# Altium footprint library Connector_PinSocket_2.00mm.PcbLib: 278 footprints (part 16 of 18)
Each footprint in its own frame and in the unit in brackets; x right, y up, seen from the top. Pads: shape width x height; smd on the part's side, far side on the other; paste and mask are expansions set on the pad; w line width, h text height; cw(c..) or ccw(c..) is an arc to the next point about the centre after c.
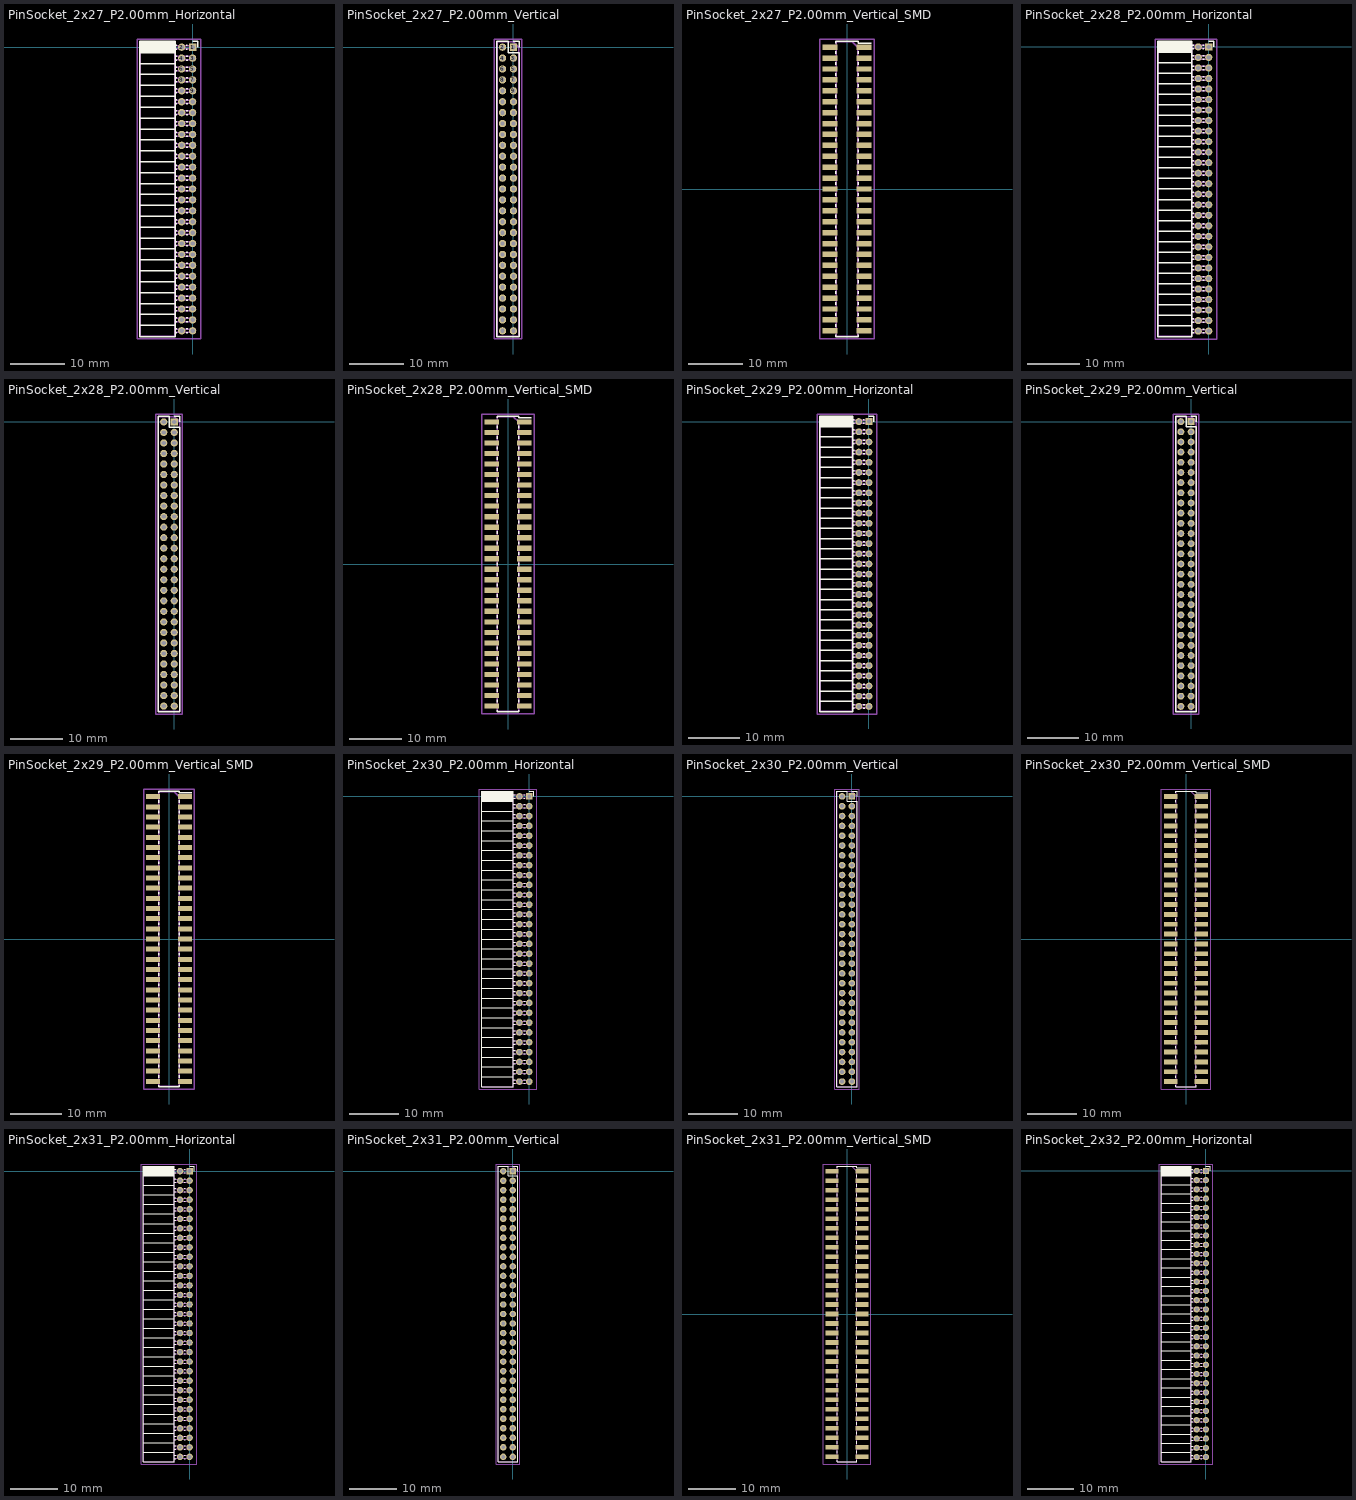
[diagram p15: the footprints below, top view; thin cyan lines are the x and y axes]

## PinSocket_2x27_P2.00mm_Horizontal [mm]
pads (54):
  rect 1.35x1.35 hole 0.8: 1(0,0)
  round 1.35 hole 0.8: 2(-2,0) 3(0,-2) 4(-2,-2) 5(0,-4) 6(-2,-4) 7(0,-6) 8(-2,-6) 9(0,-8) 10(-2,-8) 11(0,-10) 12(-2,-10) 13(0,-12) 14(-2,-12) 15(0,-14) 16(-2,-14) 17(0,-16) 18(-2,-16) 19(0,-18) 20(-2,-18) 21(0,-20) 22(-2,-20) 23(0,-22) 24(-2,-22) 25(0,-24) 26(-2,-24) 27(0,-26) 28(-2,-26) 29(0,-28) 30(-2,-28) 31(0,-30) 32(-2,-30) 33(0,-32) 34(-2,-32) 35(0,-34) 36(-2,-34) 37(0,-36) 38(-2,-36) 39(0,-38) 40(-2,-38) 41(0,-40) 42(-2,-40) 43(0,-42) 44(-2,-42) 45(0,-44) 46(-2,-44) 47(0,-46) 48(-2,-46) 49(0,-48) 50(-2,-48) 51(0,-50) 52(-2,-50) 53(0,-52) 54(-2,-52)
F.SilkS:
  drawing of 157 lines, arcs and shapes, not listed
Top Assembly:
  lines w0.254: -3.27,-52.3 0,-52.3 0,-51.7 -3.27,-51.7 ; -3.27,-50.3 0,-50.3 0,-49.7 -3.27,-49.7 ; -3.27,-48.3 0,-48.3 0,-47.7 -3.27,-47.7 ; -3.27,-46.3 0,-46.3 0,-45.7 -3.27,-45.7 ; -3.27,-44.3 0,-44.3 0,-43.7 -3.27,-43.7 ; -3.27,-42.3 0,-42.3 0,-41.7 -3.27,-41.7 ; -3.27,-40.3 0,-40.3 0,-39.7 -3.27,-39.7 ; -3.27,-38.3 0,-38.3 0,-37.7 -3.27,-37.7 ; -3.27,-36.3 0,-36.3 0,-35.7 -3.27,-35.7 ; -3.27,-34.3 0,-34.3 0,-33.7 -3.27,-33.7 ; -3.27,-32.3 0,-32.3 0,-31.7 -3.27,-31.7 ; -3.27,-30.3 0,-30.3 0,-29.7 -3.27,-29.7 ; -3.27,-28.3 0,-28.3 0,-27.7 -3.27,-27.7 ; -3.27,-26.3 0,-26.3 0,-25.7 -3.27,-25.7 ; -3.27,-24.3 0,-24.3 0,-23.7 -3.27,-23.7 ; -3.27,-22.3 0,-22.3 0,-21.7 -3.27,-21.7 ; -3.27,-20.3 0,-20.3 0,-19.7 -3.27,-19.7 ; -3.27,-18.3 0,-18.3 0,-17.7 -3.27,-17.7 ; -3.27,-16.3 0,-16.3 0,-15.7 -3.27,-15.7 ; -3.27,-14.3 0,-14.3 0,-13.7 -3.27,-13.7 ; -3.27,-12.3 0,-12.3 0,-11.7 -3.27,-11.7 ; -3.27,-10.3 0,-10.3 0,-9.7 -3.27,-9.7 ; -3.27,-8.3 0,-8.3 0,-7.7 -3.27,-7.7 ; -3.27,-6.3 0,-6.3 0,-5.7 -3.27,-5.7 ; -3.27,-4.3 0,-4.3 0,-3.7 -3.27,-3.7 ; -3.27,-2.3 0,-2.3 0,-1.7 -3.27,-1.7 ; -3.27,-0.3 0,-0.3 0,0.3 -3.27,0.3 ; -3.27,0.3 -3.27,-53 -9.62,-53 -9.62,1 -3.97,1 -3.27,0.3
  text "'.Designator'" at -5.605,-30.047 h1
Top Courtyard:
  lines w0.254: -10.15,-53.5 1.5,-53.5 1.5,1.5 -10.15,1.5 -10.15,-53.5
Top Designator:
  text ".Designator" at -11.943,-26.508 h1.52

## PinSocket_2x27_P2.00mm_Vertical [mm]
pads (54):
  rect 1.35x1.35 hole 0.8: 1(0,0)
  round 1.35 hole 0.8: 2(-2,0) 3(0,-2) 4(-2,-2) 5(0,-4) 6(-2,-4) 7(0,-6) 8(-2,-6) 9(0,-8) 10(-2,-8) 11(0,-10) 12(-2,-10) 13(0,-12) 14(-2,-12) 15(0,-14) 16(-2,-14) 17(0,-16) 18(-2,-16) 19(0,-18) 20(-2,-18) 21(0,-20) 22(-2,-20) 23(0,-22) 24(-2,-22) 25(0,-24) 26(-2,-24) 27(0,-26) 28(-2,-26) 29(0,-28) 30(-2,-28) 31(0,-30) 32(-2,-30) 33(0,-32) 34(-2,-32) 35(0,-34) 36(-2,-34) 37(0,-36) 38(-2,-36) 39(0,-38) 40(-2,-38) 41(0,-40) 42(-2,-40) 43(0,-42) 44(-2,-42) 45(0,-44) 46(-2,-44) 47(0,-46) 48(-2,-46) 49(0,-48) 50(-2,-48) 51(0,-50) 52(-2,-50) 53(0,-52) 54(-2,-52)
F.SilkS:
  lines w0.254: 0,1.06 1.06,1.06 1.06,0 ; -3.06,-53.06 1.06,-53.06 1.06,-1 -1,-1 -1,1.06 -3.06,1.06 -3.06,-53.06
Top Assembly:
  lines w0.254: -3,-53 1,-53 1,0 0,1 -3,1 -3,-53
  text "'.Designator'" at -0.16,-30.047 h1
Top Courtyard:
  lines w0.254: -3.5,-53.5 1.5,-53.5 1.5,1.5 -3.5,1.5 -3.5,-53.5
Top Designator:
  text ".Designator" at -8.618,-26.508 h1.52

## PinSocket_2x27_P2.00mm_Vertical_SMD [mm]
pads (54):
  rect 2.75x1 smd: 1(3.125,26) 2(-3.125,26) 3(3.125,24) 4(-3.125,24) 5(3.125,22) 6(-3.125,22) 7(3.125,20) 8(-3.125,20) 9(3.125,18) 10(-3.125,18) 11(3.125,16) 12(-3.125,16) 13(3.125,14) 14(-3.125,14) 15(3.125,12) 16(-3.125,12) 17(3.125,10) 18(-3.125,10) 19(3.125,8) 20(-3.125,8) 21(3.125,6) 22(-3.125,6) 23(3.125,4) 24(-3.125,4) 25(3.125,2) 26(-3.125,2) 27(3.125,0) 28(-3.125,0) 29(3.125,-2) 30(-3.125,-2) 31(3.125,-4) 32(-3.125,-4) 33(3.125,-6) 34(-3.125,-6) 35(3.125,-8) 36(-3.125,-8) 37(3.125,-10) 38(-3.125,-10) 39(3.125,-12) 40(-3.125,-12) 41(3.125,-14) 42(-3.125,-14) 43(3.125,-16) 44(-3.125,-16) 45(3.125,-18) 46(-3.125,-18) 47(3.125,-20) 48(-3.125,-20) 49(3.125,-22) 50(-3.125,-22) 51(3.125,-24) 52(-3.125,-24) 53(3.125,-26) 54(-3.125,-26)
F.SilkS:
  lines w0.254: -2.06,-26.76 -2.06,-27.06 2.06,-27.06 2.06,-26.76 ; -2.06,-25.24 -2.06,-24.76 ; -2.06,-23.24 -2.06,-22.76 ; -2.06,-21.24 -2.06,-20.76 ; -2.06,-19.24 -2.06,-18.76 ; -2.06,-17.24 -2.06,-16.76 ; -2.06,-15.24 -2.06,-14.76 ; -2.06,-13.24 -2.06,-12.76 ; -2.06,-11.24 -2.06,-10.76 ; -2.06,-9.24 -2.06,-8.76 ; -2.06,-7.24 -2.06,-6.76 ; -2.06,-5.24 -2.06,-4.76 ; -2.06,-3.24 -2.06,-2.76 ; -2.06,-1.24 -2.06,-0.76 ; -2.06,0.76 -2.06,1.24 ; -2.06,2.76 -2.06,3.24 ; -2.06,4.76 -2.06,5.24 ; -2.06,6.76 -2.06,7.24 ; -2.06,8.76 -2.06,9.24 ; -2.06,10.76 -2.06,11.24 ; -2.06,12.76 -2.06,13.24 ; -2.06,14.76 -2.06,15.24 ; -2.06,16.76 -2.06,17.24 ; -2.06,18.76 -2.06,19.24 ; -2.06,20.76 -2.06,21.24 ; -2.06,22.76 -2.06,23.24 ; -2.06,24.76 -2.06,25.24 ; -2.06,26.76 -2.06,27.06 2.06,27.06 2.06,26.76 4.44,26.76 ; 2.06,-25.24 2.06,-24.76 ; 2.06,-23.24 2.06,-22.76 ; 2.06,-21.24 2.06,-20.76 ; 2.06,-19.24 2.06,-18.76 ; 2.06,-17.24 2.06,-16.76 ; 2.06,-15.24 2.06,-14.76 ; 2.06,-13.24 2.06,-12.76 ; 2.06,-11.24 2.06,-10.76 ; 2.06,-9.24 2.06,-8.76 ; 2.06,-7.24 2.06,-6.76 ; 2.06,-5.24 2.06,-4.76 ; 2.06,-3.24 2.06,-2.76 ; 2.06,-1.24 2.06,-0.76 ; 2.06,0.76 2.06,1.24 ; 2.06,2.76 2.06,3.24 ; 2.06,4.76 2.06,5.24 ; 2.06,6.76 2.06,7.24 ; 2.06,8.76 2.06,9.24 ; 2.06,10.76 2.06,11.24 ; 2.06,12.76 2.06,13.24 ; 2.06,14.76 2.06,15.24 ; 2.06,16.76 2.06,17.24 ; 2.06,18.76 2.06,19.24 ; 2.06,20.76 2.06,21.24 ; 2.06,22.76 2.06,23.24 ; 2.06,24.76 2.06,25.24
Top Assembly:
  drawing of 167 lines, arcs and shapes, not listed
  text "'.Designator'" at 0.84,-4.047 h1
Top Courtyard:
  lines w0.254: -5,-27.5 5,-27.5 5,27.5 -5,27.5 -5,-27.5
Top Designator:
  text ".Designator" at -7.618,-0.508 h1.52

## PinSocket_2x28_P2.00mm_Horizontal [mm]
pads (56):
  rect 1.35x1.35 hole 0.8: 1(0,0)
  round 1.35 hole 0.8: 2(-2,0) 3(0,-2) 4(-2,-2) 5(0,-4) 6(-2,-4) 7(0,-6) 8(-2,-6) 9(0,-8) 10(-2,-8) 11(0,-10) 12(-2,-10) 13(0,-12) 14(-2,-12) 15(0,-14) 16(-2,-14) 17(0,-16) 18(-2,-16) 19(0,-18) 20(-2,-18) 21(0,-20) 22(-2,-20) 23(0,-22) 24(-2,-22) 25(0,-24) 26(-2,-24) 27(0,-26) 28(-2,-26) 29(0,-28) 30(-2,-28) 31(0,-30) 32(-2,-30) 33(0,-32) 34(-2,-32) 35(0,-34) 36(-2,-34) 37(0,-36) 38(-2,-36) 39(0,-38) 40(-2,-38) 41(0,-40) 42(-2,-40) 43(0,-42) 44(-2,-42) 45(0,-44) 46(-2,-44) 47(0,-46) 48(-2,-46) 49(0,-48) 50(-2,-48) 51(0,-50) 52(-2,-50) 53(0,-52) 54(-2,-52) 55(0,-54) 56(-2,-54)
F.SilkS:
  drawing of 162 lines, arcs and shapes, not listed
Top Assembly:
  lines w0.254: -3.27,-54.3 0,-54.3 0,-53.7 -3.27,-53.7 ; -3.27,-52.3 0,-52.3 0,-51.7 -3.27,-51.7 ; -3.27,-50.3 0,-50.3 0,-49.7 -3.27,-49.7 ; -3.27,-48.3 0,-48.3 0,-47.7 -3.27,-47.7 ; -3.27,-46.3 0,-46.3 0,-45.7 -3.27,-45.7 ; -3.27,-44.3 0,-44.3 0,-43.7 -3.27,-43.7 ; -3.27,-42.3 0,-42.3 0,-41.7 -3.27,-41.7 ; -3.27,-40.3 0,-40.3 0,-39.7 -3.27,-39.7 ; -3.27,-38.3 0,-38.3 0,-37.7 -3.27,-37.7 ; -3.27,-36.3 0,-36.3 0,-35.7 -3.27,-35.7 ; -3.27,-34.3 0,-34.3 0,-33.7 -3.27,-33.7 ; -3.27,-32.3 0,-32.3 0,-31.7 -3.27,-31.7 ; -3.27,-30.3 0,-30.3 0,-29.7 -3.27,-29.7 ; -3.27,-28.3 0,-28.3 0,-27.7 -3.27,-27.7 ; -3.27,-26.3 0,-26.3 0,-25.7 -3.27,-25.7 ; -3.27,-24.3 0,-24.3 0,-23.7 -3.27,-23.7 ; -3.27,-22.3 0,-22.3 0,-21.7 -3.27,-21.7 ; -3.27,-20.3 0,-20.3 0,-19.7 -3.27,-19.7 ; -3.27,-18.3 0,-18.3 0,-17.7 -3.27,-17.7 ; -3.27,-16.3 0,-16.3 0,-15.7 -3.27,-15.7 ; -3.27,-14.3 0,-14.3 0,-13.7 -3.27,-13.7 ; -3.27,-12.3 0,-12.3 0,-11.7 -3.27,-11.7 ; -3.27,-10.3 0,-10.3 0,-9.7 -3.27,-9.7 ; -3.27,-8.3 0,-8.3 0,-7.7 -3.27,-7.7 ; -3.27,-6.3 0,-6.3 0,-5.7 -3.27,-5.7 ; -3.27,-4.3 0,-4.3 0,-3.7 -3.27,-3.7 ; -3.27,-2.3 0,-2.3 0,-1.7 -3.27,-1.7 ; -3.27,-0.3 0,-0.3 0,0.3 -3.27,0.3 ; -3.27,0.3 -3.27,-55 -9.62,-55 -9.62,1 -3.97,1 -3.27,0.3
  text "'.Designator'" at -5.605,-31.047 h1
Top Courtyard:
  lines w0.254: -10.15,-55.5 1.5,-55.5 1.5,1.5 -10.15,1.5 -10.15,-55.5
Top Designator:
  text ".Designator" at -11.943,-27.508 h1.52

## PinSocket_2x28_P2.00mm_Vertical [mm]
pads (56):
  rect 1.35x1.35 hole 0.8: 1(0,0)
  round 1.35 hole 0.8: 2(-2,0) 3(0,-2) 4(-2,-2) 5(0,-4) 6(-2,-4) 7(0,-6) 8(-2,-6) 9(0,-8) 10(-2,-8) 11(0,-10) 12(-2,-10) 13(0,-12) 14(-2,-12) 15(0,-14) 16(-2,-14) 17(0,-16) 18(-2,-16) 19(0,-18) 20(-2,-18) 21(0,-20) 22(-2,-20) 23(0,-22) 24(-2,-22) 25(0,-24) 26(-2,-24) 27(0,-26) 28(-2,-26) 29(0,-28) 30(-2,-28) 31(0,-30) 32(-2,-30) 33(0,-32) 34(-2,-32) 35(0,-34) 36(-2,-34) 37(0,-36) 38(-2,-36) 39(0,-38) 40(-2,-38) 41(0,-40) 42(-2,-40) 43(0,-42) 44(-2,-42) 45(0,-44) 46(-2,-44) 47(0,-46) 48(-2,-46) 49(0,-48) 50(-2,-48) 51(0,-50) 52(-2,-50) 53(0,-52) 54(-2,-52) 55(0,-54) 56(-2,-54)
F.SilkS:
  lines w0.254: 0,1.06 1.06,1.06 1.06,0 ; -3.06,-55.06 1.06,-55.06 1.06,-1 -1,-1 -1,1.06 -3.06,1.06 -3.06,-55.06
Top Assembly:
  lines w0.254: -3,-55 1,-55 1,0 0,1 -3,1 -3,-55
  text "'.Designator'" at -0.16,-31.047 h1
Top Courtyard:
  lines w0.254: -3.5,-55.5 1.5,-55.5 1.5,1.5 -3.5,1.5 -3.5,-55.5
Top Designator:
  text ".Designator" at -8.618,-27.508 h1.52

## PinSocket_2x28_P2.00mm_Vertical_SMD [mm]
pads (56):
  rect 2.75x1 smd: 1(3.125,27) 2(-3.125,27) 3(3.125,25) 4(-3.125,25) 5(3.125,23) 6(-3.125,23) 7(3.125,21) 8(-3.125,21) 9(3.125,19) 10(-3.125,19) 11(3.125,17) 12(-3.125,17) 13(3.125,15) 14(-3.125,15) 15(3.125,13) 16(-3.125,13) 17(3.125,11) 18(-3.125,11) 19(3.125,9) 20(-3.125,9) 21(3.125,7) 22(-3.125,7) 23(3.125,5) 24(-3.125,5) 25(3.125,3) 26(-3.125,3) 27(3.125,1) 28(-3.125,1) 29(3.125,-1) 30(-3.125,-1) 31(3.125,-3) 32(-3.125,-3) 33(3.125,-5) 34(-3.125,-5) 35(3.125,-7) 36(-3.125,-7) 37(3.125,-9) 38(-3.125,-9) 39(3.125,-11) 40(-3.125,-11) 41(3.125,-13) 42(-3.125,-13) 43(3.125,-15) 44(-3.125,-15) 45(3.125,-17) 46(-3.125,-17) 47(3.125,-19) 48(-3.125,-19) 49(3.125,-21) 50(-3.125,-21) 51(3.125,-23) 52(-3.125,-23) 53(3.125,-25) 54(-3.125,-25) 55(3.125,-27) 56(-3.125,-27)
F.SilkS:
  lines w0.254: -2.06,-27.76 -2.06,-28.06 2.06,-28.06 2.06,-27.76 ; -2.06,-26.24 -2.06,-25.76 ; -2.06,-24.24 -2.06,-23.76 ; -2.06,-22.24 -2.06,-21.76 ; -2.06,-20.24 -2.06,-19.76 ; -2.06,-18.24 -2.06,-17.76 ; -2.06,-16.24 -2.06,-15.76 ; -2.06,-14.24 -2.06,-13.76 ; -2.06,-12.24 -2.06,-11.76 ; -2.06,-10.24 -2.06,-9.76 ; -2.06,-8.24 -2.06,-7.76 ; -2.06,-6.24 -2.06,-5.76 ; -2.06,-4.24 -2.06,-3.76 ; -2.06,-2.24 -2.06,-1.76 ; -2.06,-0.24 -2.06,0.24 ; -2.06,1.76 -2.06,2.24 ; -2.06,3.76 -2.06,4.24 ; -2.06,5.76 -2.06,6.24 ; -2.06,7.76 -2.06,8.24 ; -2.06,9.76 -2.06,10.24 ; -2.06,11.76 -2.06,12.24 ; -2.06,13.76 -2.06,14.24 ; -2.06,15.76 -2.06,16.24 ; -2.06,17.76 -2.06,18.24 ; -2.06,19.76 -2.06,20.24 ; -2.06,21.76 -2.06,22.24 ; -2.06,23.76 -2.06,24.24 ; -2.06,25.76 -2.06,26.24 ; -2.06,27.76 -2.06,28.06 2.06,28.06 2.06,27.76 4.44,27.76 ; 2.06,-26.24 2.06,-25.76 ; 2.06,-24.24 2.06,-23.76 ; 2.06,-22.24 2.06,-21.76 ; 2.06,-20.24 2.06,-19.76 ; 2.06,-18.24 2.06,-17.76 ; 2.06,-16.24 2.06,-15.76 ; 2.06,-14.24 2.06,-13.76 ; 2.06,-12.24 2.06,-11.76 ; 2.06,-10.24 2.06,-9.76 ; 2.06,-8.24 2.06,-7.76 ; 2.06,-6.24 2.06,-5.76 ; 2.06,-4.24 2.06,-3.76 ; 2.06,-2.24 2.06,-1.76 ; 2.06,-0.24 2.06,0.24 ; 2.06,1.76 2.06,2.24 ; 2.06,3.76 2.06,4.24 ; 2.06,5.76 2.06,6.24 ; 2.06,7.76 2.06,8.24 ; 2.06,9.76 2.06,10.24 ; 2.06,11.76 2.06,12.24 ; 2.06,13.76 2.06,14.24 ; 2.06,15.76 2.06,16.24 ; 2.06,17.76 2.06,18.24 ; 2.06,19.76 2.06,20.24 ; 2.06,21.76 2.06,22.24 ; 2.06,23.76 2.06,24.24 ; 2.06,25.76 2.06,26.24
Top Assembly:
  drawing of 173 lines, arcs and shapes, not listed
  text "'.Designator'" at 0.84,-4.047 h1
Top Courtyard:
  lines w0.254: -5,-28.5 5,-28.5 5,28.5 -5,28.5 -5,-28.5
Top Designator:
  text ".Designator" at -7.618,-0.508 h1.52

## PinSocket_2x29_P2.00mm_Horizontal [mm]
pads (58):
  rect 1.35x1.35 hole 0.8: 1(0,0)
  round 1.35 hole 0.8: 2(-2,0) 3(0,-2) 4(-2,-2) 5(0,-4) 6(-2,-4) 7(0,-6) 8(-2,-6) 9(0,-8) 10(-2,-8) 11(0,-10) 12(-2,-10) 13(0,-12) 14(-2,-12) 15(0,-14) 16(-2,-14) 17(0,-16) 18(-2,-16) 19(0,-18) 20(-2,-18) 21(0,-20) 22(-2,-20) 23(0,-22) 24(-2,-22) 25(0,-24) 26(-2,-24) 27(0,-26) 28(-2,-26) 29(0,-28) 30(-2,-28) 31(0,-30) 32(-2,-30) 33(0,-32) 34(-2,-32) 35(0,-34) 36(-2,-34) 37(0,-36) 38(-2,-36) 39(0,-38) 40(-2,-38) 41(0,-40) 42(-2,-40) 43(0,-42) 44(-2,-42) 45(0,-44) 46(-2,-44) 47(0,-46) 48(-2,-46) 49(0,-48) 50(-2,-48) 51(0,-50) 52(-2,-50) 53(0,-52) 54(-2,-52) 55(0,-54) 56(-2,-54) 57(0,-56) 58(-2,-56)
F.SilkS:
  drawing of 167 lines, arcs and shapes, not listed
Top Assembly:
  lines w0.254: -3.27,-56.3 0,-56.3 0,-55.7 -3.27,-55.7 ; -3.27,-54.3 0,-54.3 0,-53.7 -3.27,-53.7 ; -3.27,-52.3 0,-52.3 0,-51.7 -3.27,-51.7 ; -3.27,-50.3 0,-50.3 0,-49.7 -3.27,-49.7 ; -3.27,-48.3 0,-48.3 0,-47.7 -3.27,-47.7 ; -3.27,-46.3 0,-46.3 0,-45.7 -3.27,-45.7 ; -3.27,-44.3 0,-44.3 0,-43.7 -3.27,-43.7 ; -3.27,-42.3 0,-42.3 0,-41.7 -3.27,-41.7 ; -3.27,-40.3 0,-40.3 0,-39.7 -3.27,-39.7 ; -3.27,-38.3 0,-38.3 0,-37.7 -3.27,-37.7 ; -3.27,-36.3 0,-36.3 0,-35.7 -3.27,-35.7 ; -3.27,-34.3 0,-34.3 0,-33.7 -3.27,-33.7 ; -3.27,-32.3 0,-32.3 0,-31.7 -3.27,-31.7 ; -3.27,-30.3 0,-30.3 0,-29.7 -3.27,-29.7 ; -3.27,-28.3 0,-28.3 0,-27.7 -3.27,-27.7 ; -3.27,-26.3 0,-26.3 0,-25.7 -3.27,-25.7 ; -3.27,-24.3 0,-24.3 0,-23.7 -3.27,-23.7 ; -3.27,-22.3 0,-22.3 0,-21.7 -3.27,-21.7 ; -3.27,-20.3 0,-20.3 0,-19.7 -3.27,-19.7 ; -3.27,-18.3 0,-18.3 0,-17.7 -3.27,-17.7 ; -3.27,-16.3 0,-16.3 0,-15.7 -3.27,-15.7 ; -3.27,-14.3 0,-14.3 0,-13.7 -3.27,-13.7 ; -3.27,-12.3 0,-12.3 0,-11.7 -3.27,-11.7 ; -3.27,-10.3 0,-10.3 0,-9.7 -3.27,-9.7 ; -3.27,-8.3 0,-8.3 0,-7.7 -3.27,-7.7 ; -3.27,-6.3 0,-6.3 0,-5.7 -3.27,-5.7 ; -3.27,-4.3 0,-4.3 0,-3.7 -3.27,-3.7 ; -3.27,-2.3 0,-2.3 0,-1.7 -3.27,-1.7 ; -3.27,-0.3 0,-0.3 0,0.3 -3.27,0.3 ; -3.27,0.3 -3.27,-57 -9.62,-57 -9.62,1 -3.97,1 -3.27,0.3
  text "'.Designator'" at -5.605,-32.047 h1
Top Courtyard:
  lines w0.254: -10.15,-57.5 1.5,-57.5 1.5,1.5 -10.15,1.5 -10.15,-57.5
Top Designator:
  text ".Designator" at -11.943,-28.508 h1.52

## PinSocket_2x29_P2.00mm_Vertical [mm]
pads (58):
  rect 1.35x1.35 hole 0.8: 1(0,0)
  round 1.35 hole 0.8: 2(-2,0) 3(0,-2) 4(-2,-2) 5(0,-4) 6(-2,-4) 7(0,-6) 8(-2,-6) 9(0,-8) 10(-2,-8) 11(0,-10) 12(-2,-10) 13(0,-12) 14(-2,-12) 15(0,-14) 16(-2,-14) 17(0,-16) 18(-2,-16) 19(0,-18) 20(-2,-18) 21(0,-20) 22(-2,-20) 23(0,-22) 24(-2,-22) 25(0,-24) 26(-2,-24) 27(0,-26) 28(-2,-26) 29(0,-28) 30(-2,-28) 31(0,-30) 32(-2,-30) 33(0,-32) 34(-2,-32) 35(0,-34) 36(-2,-34) 37(0,-36) 38(-2,-36) 39(0,-38) 40(-2,-38) 41(0,-40) 42(-2,-40) 43(0,-42) 44(-2,-42) 45(0,-44) 46(-2,-44) 47(0,-46) 48(-2,-46) 49(0,-48) 50(-2,-48) 51(0,-50) 52(-2,-50) 53(0,-52) 54(-2,-52) 55(0,-54) 56(-2,-54) 57(0,-56) 58(-2,-56)
F.SilkS:
  lines w0.254: 0,1.06 1.06,1.06 1.06,0 ; -3.06,-57.06 1.06,-57.06 1.06,-1 -1,-1 -1,1.06 -3.06,1.06 -3.06,-57.06
Top Assembly:
  lines w0.254: -3,-57 1,-57 1,0 0,1 -3,1 -3,-57
  text "'.Designator'" at -0.16,-32.047 h1
Top Courtyard:
  lines w0.254: -3.5,-57.5 1.5,-57.5 1.5,1.5 -3.5,1.5 -3.5,-57.5
Top Designator:
  text ".Designator" at -8.618,-28.508 h1.52

## PinSocket_2x29_P2.00mm_Vertical_SMD [mm]
pads (58):
  rect 2.75x1 smd: 1(3.125,28) 2(-3.125,28) 3(3.125,26) 4(-3.125,26) 5(3.125,24) 6(-3.125,24) 7(3.125,22) 8(-3.125,22) 9(3.125,20) 10(-3.125,20) 11(3.125,18) 12(-3.125,18) 13(3.125,16) 14(-3.125,16) 15(3.125,14) 16(-3.125,14) 17(3.125,12) 18(-3.125,12) 19(3.125,10) 20(-3.125,10) 21(3.125,8) 22(-3.125,8) 23(3.125,6) 24(-3.125,6) 25(3.125,4) 26(-3.125,4) 27(3.125,2) 28(-3.125,2) 29(3.125,0) 30(-3.125,0) 31(3.125,-2) 32(-3.125,-2) 33(3.125,-4) 34(-3.125,-4) 35(3.125,-6) 36(-3.125,-6) 37(3.125,-8) 38(-3.125,-8) 39(3.125,-10) 40(-3.125,-10) 41(3.125,-12) 42(-3.125,-12) 43(3.125,-14) 44(-3.125,-14) 45(3.125,-16) 46(-3.125,-16) 47(3.125,-18) 48(-3.125,-18) 49(3.125,-20) 50(-3.125,-20) 51(3.125,-22) 52(-3.125,-22) 53(3.125,-24) 54(-3.125,-24) 55(3.125,-26) 56(-3.125,-26) 57(3.125,-28) 58(-3.125,-28)
F.SilkS:
  lines w0.254: -2.06,-28.76 -2.06,-29.06 2.06,-29.06 2.06,-28.76 ; -2.06,-27.24 -2.06,-26.76 ; -2.06,-25.24 -2.06,-24.76 ; -2.06,-23.24 -2.06,-22.76 ; -2.06,-21.24 -2.06,-20.76 ; -2.06,-19.24 -2.06,-18.76 ; -2.06,-17.24 -2.06,-16.76 ; -2.06,-15.24 -2.06,-14.76 ; -2.06,-13.24 -2.06,-12.76 ; -2.06,-11.24 -2.06,-10.76 ; -2.06,-9.24 -2.06,-8.76 ; -2.06,-7.24 -2.06,-6.76 ; -2.06,-5.24 -2.06,-4.76 ; -2.06,-3.24 -2.06,-2.76 ; -2.06,-1.24 -2.06,-0.76 ; -2.06,0.76 -2.06,1.24 ; -2.06,2.76 -2.06,3.24 ; -2.06,4.76 -2.06,5.24 ; -2.06,6.76 -2.06,7.24 ; -2.06,8.76 -2.06,9.24 ; -2.06,10.76 -2.06,11.24 ; -2.06,12.76 -2.06,13.24 ; -2.06,14.76 -2.06,15.24 ; -2.06,16.76 -2.06,17.24 ; -2.06,18.76 -2.06,19.24 ; -2.06,20.76 -2.06,21.24 ; -2.06,22.76 -2.06,23.24 ; -2.06,24.76 -2.06,25.24 ; -2.06,26.76 -2.06,27.24 ; -2.06,28.76 -2.06,29.06 2.06,29.06 2.06,28.76 4.44,28.76 ; 2.06,-27.24 2.06,-26.76 ; 2.06,-25.24 2.06,-24.76 ; 2.06,-23.24 2.06,-22.76 ; 2.06,-21.24 2.06,-20.76 ; 2.06,-19.24 2.06,-18.76 ; 2.06,-17.24 2.06,-16.76 ; 2.06,-15.24 2.06,-14.76 ; 2.06,-13.24 2.06,-12.76 ; 2.06,-11.24 2.06,-10.76 ; 2.06,-9.24 2.06,-8.76 ; 2.06,-7.24 2.06,-6.76 ; 2.06,-5.24 2.06,-4.76 ; 2.06,-3.24 2.06,-2.76 ; 2.06,-1.24 2.06,-0.76 ; 2.06,0.76 2.06,1.24 ; 2.06,2.76 2.06,3.24 ; 2.06,4.76 2.06,5.24 ; 2.06,6.76 2.06,7.24 ; 2.06,8.76 2.06,9.24 ; 2.06,10.76 2.06,11.24 ; 2.06,12.76 2.06,13.24 ; 2.06,14.76 2.06,15.24 ; 2.06,16.76 2.06,17.24 ; 2.06,18.76 2.06,19.24 ; 2.06,20.76 2.06,21.24 ; 2.06,22.76 2.06,23.24 ; 2.06,24.76 2.06,25.24 ; 2.06,26.76 2.06,27.24
Top Assembly:
  drawing of 179 lines, arcs and shapes, not listed
  text "'.Designator'" at 0.84,-4.047 h1
Top Courtyard:
  lines w0.254: -5,-29.5 5,-29.5 5,29.5 -5,29.5 -5,-29.5
Top Designator:
  text ".Designator" at -7.618,-0.508 h1.52

## PinSocket_2x30_P2.00mm_Horizontal [mm]
pads (60):
  rect 1.35x1.35 hole 0.8: 1(0,0)
  round 1.35 hole 0.8: 2(-2,0) 3(0,-2) 4(-2,-2) 5(0,-4) 6(-2,-4) 7(0,-6) 8(-2,-6) 9(0,-8) 10(-2,-8) 11(0,-10) 12(-2,-10) 13(0,-12) 14(-2,-12) 15(0,-14) 16(-2,-14) 17(0,-16) 18(-2,-16) 19(0,-18) 20(-2,-18) 21(0,-20) 22(-2,-20) 23(0,-22) 24(-2,-22) 25(0,-24) 26(-2,-24) 27(0,-26) 28(-2,-26) 29(0,-28) 30(-2,-28) 31(0,-30) 32(-2,-30) 33(0,-32) 34(-2,-32) 35(0,-34) 36(-2,-34) 37(0,-36) 38(-2,-36) 39(0,-38) 40(-2,-38) 41(0,-40) 42(-2,-40) 43(0,-42) 44(-2,-42) 45(0,-44) 46(-2,-44) 47(0,-46) 48(-2,-46) 49(0,-48) 50(-2,-48) 51(0,-50) 52(-2,-50) 53(0,-52) 54(-2,-52) 55(0,-54) 56(-2,-54) 57(0,-56) 58(-2,-56) 59(0,-58) 60(-2,-58)
F.SilkS:
  drawing of 172 lines, arcs and shapes, not listed
Top Assembly:
  lines w0.254: -3.27,-58.3 0,-58.3 0,-57.7 -3.27,-57.7 ; -3.27,-56.3 0,-56.3 0,-55.7 -3.27,-55.7 ; -3.27,-54.3 0,-54.3 0,-53.7 -3.27,-53.7 ; -3.27,-52.3 0,-52.3 0,-51.7 -3.27,-51.7 ; -3.27,-50.3 0,-50.3 0,-49.7 -3.27,-49.7 ; -3.27,-48.3 0,-48.3 0,-47.7 -3.27,-47.7 ; -3.27,-46.3 0,-46.3 0,-45.7 -3.27,-45.7 ; -3.27,-44.3 0,-44.3 0,-43.7 -3.27,-43.7 ; -3.27,-42.3 0,-42.3 0,-41.7 -3.27,-41.7 ; -3.27,-40.3 0,-40.3 0,-39.7 -3.27,-39.7 ; -3.27,-38.3 0,-38.3 0,-37.7 -3.27,-37.7 ; -3.27,-36.3 0,-36.3 0,-35.7 -3.27,-35.7 ; -3.27,-34.3 0,-34.3 0,-33.7 -3.27,-33.7 ; -3.27,-32.3 0,-32.3 0,-31.7 -3.27,-31.7 ; -3.27,-30.3 0,-30.3 0,-29.7 -3.27,-29.7 ; -3.27,-28.3 0,-28.3 0,-27.7 -3.27,-27.7 ; -3.27,-26.3 0,-26.3 0,-25.7 -3.27,-25.7 ; -3.27,-24.3 0,-24.3 0,-23.7 -3.27,-23.7 ; -3.27,-22.3 0,-22.3 0,-21.7 -3.27,-21.7 ; -3.27,-20.3 0,-20.3 0,-19.7 -3.27,-19.7 ; -3.27,-18.3 0,-18.3 0,-17.7 -3.27,-17.7 ; -3.27,-16.3 0,-16.3 0,-15.7 -3.27,-15.7 ; -3.27,-14.3 0,-14.3 0,-13.7 -3.27,-13.7 ; -3.27,-12.3 0,-12.3 0,-11.7 -3.27,-11.7 ; -3.27,-10.3 0,-10.3 0,-9.7 -3.27,-9.7 ; -3.27,-8.3 0,-8.3 0,-7.7 -3.27,-7.7 ; -3.27,-6.3 0,-6.3 0,-5.7 -3.27,-5.7 ; -3.27,-4.3 0,-4.3 0,-3.7 -3.27,-3.7 ; -3.27,-2.3 0,-2.3 0,-1.7 -3.27,-1.7 ; -3.27,-0.3 0,-0.3 0,0.3 -3.27,0.3 ; -3.27,0.3 -3.27,-59 -9.62,-59 -9.62,1 -3.97,1 -3.27,0.3
  text "'.Designator'" at -5.605,-33.047 h1
Top Courtyard:
  lines w0.254: -10.15,-59.5 1.5,-59.5 1.5,1.5 -10.15,1.5 -10.15,-59.5
Top Designator:
  text ".Designator" at -11.943,-29.508 h1.52

## PinSocket_2x30_P2.00mm_Vertical [mm]
pads (60):
  rect 1.35x1.35 hole 0.8: 1(0,0)
  round 1.35 hole 0.8: 2(-2,0) 3(0,-2) 4(-2,-2) 5(0,-4) 6(-2,-4) 7(0,-6) 8(-2,-6) 9(0,-8) 10(-2,-8) 11(0,-10) 12(-2,-10) 13(0,-12) 14(-2,-12) 15(0,-14) 16(-2,-14) 17(0,-16) 18(-2,-16) 19(0,-18) 20(-2,-18) 21(0,-20) 22(-2,-20) 23(0,-22) 24(-2,-22) 25(0,-24) 26(-2,-24) 27(0,-26) 28(-2,-26) 29(0,-28) 30(-2,-28) 31(0,-30) 32(-2,-30) 33(0,-32) 34(-2,-32) 35(0,-34) 36(-2,-34) 37(0,-36) 38(-2,-36) 39(0,-38) 40(-2,-38) 41(0,-40) 42(-2,-40) 43(0,-42) 44(-2,-42) 45(0,-44) 46(-2,-44) 47(0,-46) 48(-2,-46) 49(0,-48) 50(-2,-48) 51(0,-50) 52(-2,-50) 53(0,-52) 54(-2,-52) 55(0,-54) 56(-2,-54) 57(0,-56) 58(-2,-56) 59(0,-58) 60(-2,-58)
F.SilkS:
  lines w0.254: 0,1.06 1.06,1.06 1.06,0 ; -3.06,-59.06 1.06,-59.06 1.06,-1 -1,-1 -1,1.06 -3.06,1.06 -3.06,-59.06
Top Assembly:
  lines w0.254: -3,-59 1,-59 1,0 0,1 -3,1 -3,-59
  text "'.Designator'" at -0.16,-33.047 h1
Top Courtyard:
  lines w0.254: -3.5,-59.5 1.5,-59.5 1.5,1.5 -3.5,1.5 -3.5,-59.5
Top Designator:
  text ".Designator" at -8.618,-29.508 h1.52

## PinSocket_2x30_P2.00mm_Vertical_SMD [mm]
pads (60):
  rect 2.75x1 smd: 1(3.125,29) 2(-3.125,29) 3(3.125,27) 4(-3.125,27) 5(3.125,25) 6(-3.125,25) 7(3.125,23) 8(-3.125,23) 9(3.125,21) 10(-3.125,21) 11(3.125,19) 12(-3.125,19) 13(3.125,17) 14(-3.125,17) 15(3.125,15) 16(-3.125,15) 17(3.125,13) 18(-3.125,13) 19(3.125,11) 20(-3.125,11) 21(3.125,9) 22(-3.125,9) 23(3.125,7) 24(-3.125,7) 25(3.125,5) 26(-3.125,5) 27(3.125,3) 28(-3.125,3) 29(3.125,1) 30(-3.125,1) 31(3.125,-1) 32(-3.125,-1) 33(3.125,-3) 34(-3.125,-3) 35(3.125,-5) 36(-3.125,-5) 37(3.125,-7) 38(-3.125,-7) 39(3.125,-9) 40(-3.125,-9) 41(3.125,-11) 42(-3.125,-11) 43(3.125,-13) 44(-3.125,-13) 45(3.125,-15) 46(-3.125,-15) 47(3.125,-17) 48(-3.125,-17) 49(3.125,-19) 50(-3.125,-19) 51(3.125,-21) 52(-3.125,-21) 53(3.125,-23) 54(-3.125,-23) 55(3.125,-25) 56(-3.125,-25) 57(3.125,-27) 58(-3.125,-27) 59(3.125,-29) 60(-3.125,-29)
F.SilkS:
  lines w0.254: -2.06,-29.76 -2.06,-30.06 2.06,-30.06 2.06,-29.76 ; -2.06,-28.24 -2.06,-27.76 ; -2.06,-26.24 -2.06,-25.76 ; -2.06,-24.24 -2.06,-23.76 ; -2.06,-22.24 -2.06,-21.76 ; -2.06,-20.24 -2.06,-19.76 ; -2.06,-18.24 -2.06,-17.76 ; -2.06,-16.24 -2.06,-15.76 ; -2.06,-14.24 -2.06,-13.76 ; -2.06,-12.24 -2.06,-11.76 ; -2.06,-10.24 -2.06,-9.76 ; -2.06,-8.24 -2.06,-7.76 ; -2.06,-6.24 -2.06,-5.76 ; -2.06,-4.24 -2.06,-3.76 ; -2.06,-2.24 -2.06,-1.76 ; -2.06,-0.24 -2.06,0.24 ; -2.06,1.76 -2.06,2.24 ; -2.06,3.76 -2.06,4.24 ; -2.06,5.76 -2.06,6.24 ; -2.06,7.76 -2.06,8.24 ; -2.06,9.76 -2.06,10.24 ; -2.06,11.76 -2.06,12.24 ; -2.06,13.76 -2.06,14.24 ; -2.06,15.76 -2.06,16.24 ; -2.06,17.76 -2.06,18.24 ; -2.06,19.76 -2.06,20.24 ; -2.06,21.76 -2.06,22.24 ; -2.06,23.76 -2.06,24.24 ; -2.06,25.76 -2.06,26.24 ; -2.06,27.76 -2.06,28.24 ; -2.06,29.76 -2.06,30.06 2.06,30.06 2.06,29.76 4.44,29.76 ; 2.06,-28.24 2.06,-27.76 ; 2.06,-26.24 2.06,-25.76 ; 2.06,-24.24 2.06,-23.76 ; 2.06,-22.24 2.06,-21.76 ; 2.06,-20.24 2.06,-19.76 ; 2.06,-18.24 2.06,-17.76 ; 2.06,-16.24 2.06,-15.76 ; 2.06,-14.24 2.06,-13.76 ; 2.06,-12.24 2.06,-11.76 ; 2.06,-10.24 2.06,-9.76 ; 2.06,-8.24 2.06,-7.76 ; 2.06,-6.24 2.06,-5.76 ; 2.06,-4.24 2.06,-3.76 ; 2.06,-2.24 2.06,-1.76 ; 2.06,-0.24 2.06,0.24 ; 2.06,1.76 2.06,2.24 ; 2.06,3.76 2.06,4.24 ; 2.06,5.76 2.06,6.24 ; 2.06,7.76 2.06,8.24 ; 2.06,9.76 2.06,10.24 ; 2.06,11.76 2.06,12.24 ; 2.06,13.76 2.06,14.24 ; 2.06,15.76 2.06,16.24 ; 2.06,17.76 2.06,18.24 ; 2.06,19.76 2.06,20.24 ; 2.06,21.76 2.06,22.24 ; 2.06,23.76 2.06,24.24 ; 2.06,25.76 2.06,26.24 ; 2.06,27.76 2.06,28.24
Top Assembly:
  drawing of 185 lines, arcs and shapes, not listed
  text "'.Designator'" at 0.84,-4.047 h1
Top Courtyard:
  lines w0.254: -5,-30.5 5,-30.5 5,30.5 -5,30.5 -5,-30.5
Top Designator:
  text ".Designator" at -7.618,-0.508 h1.52

## PinSocket_2x31_P2.00mm_Horizontal [mm]
pads (62):
  rect 1.35x1.35 hole 0.8: 1(0,0)
  round 1.35 hole 0.8: 2(-2,0) 3(0,-2) 4(-2,-2) 5(0,-4) 6(-2,-4) 7(0,-6) 8(-2,-6) 9(0,-8) 10(-2,-8) 11(0,-10) 12(-2,-10) 13(0,-12) 14(-2,-12) 15(0,-14) 16(-2,-14) 17(0,-16) 18(-2,-16) 19(0,-18) 20(-2,-18) 21(0,-20) 22(-2,-20) 23(0,-22) 24(-2,-22) 25(0,-24) 26(-2,-24) 27(0,-26) 28(-2,-26) 29(0,-28) 30(-2,-28) 31(0,-30) 32(-2,-30) 33(0,-32) 34(-2,-32) 35(0,-34) 36(-2,-34) 37(0,-36) 38(-2,-36) 39(0,-38) 40(-2,-38) 41(0,-40) 42(-2,-40) 43(0,-42) 44(-2,-42) 45(0,-44) 46(-2,-44) 47(0,-46) 48(-2,-46) 49(0,-48) 50(-2,-48) 51(0,-50) 52(-2,-50) 53(0,-52) 54(-2,-52) 55(0,-54) 56(-2,-54) 57(0,-56) 58(-2,-56) 59(0,-58) 60(-2,-58) 61(0,-60) 62(-2,-60)
F.SilkS:
  drawing of 177 lines, arcs and shapes, not listed
Top Assembly:
  lines w0.254: -3.27,-60.3 0,-60.3 0,-59.7 -3.27,-59.7 ; -3.27,-58.3 0,-58.3 0,-57.7 -3.27,-57.7 ; -3.27,-56.3 0,-56.3 0,-55.7 -3.27,-55.7 ; -3.27,-54.3 0,-54.3 0,-53.7 -3.27,-53.7 ; -3.27,-52.3 0,-52.3 0,-51.7 -3.27,-51.7 ; -3.27,-50.3 0,-50.3 0,-49.7 -3.27,-49.7 ; -3.27,-48.3 0,-48.3 0,-47.7 -3.27,-47.7 ; -3.27,-46.3 0,-46.3 0,-45.7 -3.27,-45.7 ; -3.27,-44.3 0,-44.3 0,-43.7 -3.27,-43.7 ; -3.27,-42.3 0,-42.3 0,-41.7 -3.27,-41.7 ; -3.27,-40.3 0,-40.3 0,-39.7 -3.27,-39.7 ; -3.27,-38.3 0,-38.3 0,-37.7 -3.27,-37.7 ; -3.27,-36.3 0,-36.3 0,-35.7 -3.27,-35.7 ; -3.27,-34.3 0,-34.3 0,-33.7 -3.27,-33.7 ; -3.27,-32.3 0,-32.3 0,-31.7 -3.27,-31.7 ; -3.27,-30.3 0,-30.3 0,-29.7 -3.27,-29.7 ; -3.27,-28.3 0,-28.3 0,-27.7 -3.27,-27.7 ; -3.27,-26.3 0,-26.3 0,-25.7 -3.27,-25.7 ; -3.27,-24.3 0,-24.3 0,-23.7 -3.27,-23.7 ; -3.27,-22.3 0,-22.3 0,-21.7 -3.27,-21.7 ; -3.27,-20.3 0,-20.3 0,-19.7 -3.27,-19.7 ; -3.27,-18.3 0,-18.3 0,-17.7 -3.27,-17.7 ; -3.27,-16.3 0,-16.3 0,-15.7 -3.27,-15.7 ; -3.27,-14.3 0,-14.3 0,-13.7 -3.27,-13.7 ; -3.27,-12.3 0,-12.3 0,-11.7 -3.27,-11.7 ; -3.27,-10.3 0,-10.3 0,-9.7 -3.27,-9.7 ; -3.27,-8.3 0,-8.3 0,-7.7 -3.27,-7.7 ; -3.27,-6.3 0,-6.3 0,-5.7 -3.27,-5.7 ; -3.27,-4.3 0,-4.3 0,-3.7 -3.27,-3.7 ; -3.27,-2.3 0,-2.3 0,-1.7 -3.27,-1.7 ; -3.27,-0.3 0,-0.3 0,0.3 -3.27,0.3 ; -3.27,0.3 -3.27,-61 -9.62,-61 -9.62,1 -3.97,1 -3.27,0.3
  text "'.Designator'" at -5.605,-34.047 h1
Top Courtyard:
  lines w0.254: -10.15,-61.5 1.5,-61.5 1.5,1.5 -10.15,1.5 -10.15,-61.5
Top Designator:
  text ".Designator" at -11.943,-30.508 h1.52

## PinSocket_2x31_P2.00mm_Vertical [mm]
pads (62):
  rect 1.35x1.35 hole 0.8: 1(0,0)
  round 1.35 hole 0.8: 2(-2,0) 3(0,-2) 4(-2,-2) 5(0,-4) 6(-2,-4) 7(0,-6) 8(-2,-6) 9(0,-8) 10(-2,-8) 11(0,-10) 12(-2,-10) 13(0,-12) 14(-2,-12) 15(0,-14) 16(-2,-14) 17(0,-16) 18(-2,-16) 19(0,-18) 20(-2,-18) 21(0,-20) 22(-2,-20) 23(0,-22) 24(-2,-22) 25(0,-24) 26(-2,-24) 27(0,-26) 28(-2,-26) 29(0,-28) 30(-2,-28) 31(0,-30) 32(-2,-30) 33(0,-32) 34(-2,-32) 35(0,-34) 36(-2,-34) 37(0,-36) 38(-2,-36) 39(0,-38) 40(-2,-38) 41(0,-40) 42(-2,-40) 43(0,-42) 44(-2,-42) 45(0,-44) 46(-2,-44) 47(0,-46) 48(-2,-46) 49(0,-48) 50(-2,-48) 51(0,-50) 52(-2,-50) 53(0,-52) 54(-2,-52) 55(0,-54) 56(-2,-54) 57(0,-56) 58(-2,-56) 59(0,-58) 60(-2,-58) 61(0,-60) 62(-2,-60)
F.SilkS:
  lines w0.254: 0,1.06 1.06,1.06 1.06,0 ; -3.06,-61.06 1.06,-61.06 1.06,-1 -1,-1 -1,1.06 -3.06,1.06 -3.06,-61.06
Top Assembly:
  lines w0.254: -3,-61 1,-61 1,0 0,1 -3,1 -3,-61
  text "'.Designator'" at -0.16,-34.047 h1
Top Courtyard:
  lines w0.254: -3.5,-61.5 1.5,-61.5 1.5,1.5 -3.5,1.5 -3.5,-61.5
Top Designator:
  text ".Designator" at -8.618,-30.508 h1.52

## PinSocket_2x31_P2.00mm_Vertical_SMD [mm]
pads (62):
  rect 2.75x1 smd: 1(3.125,30) 2(-3.125,30) 3(3.125,28) 4(-3.125,28) 5(3.125,26) 6(-3.125,26) 7(3.125,24) 8(-3.125,24) 9(3.125,22) 10(-3.125,22) 11(3.125,20) 12(-3.125,20) 13(3.125,18) 14(-3.125,18) 15(3.125,16) 16(-3.125,16) 17(3.125,14) 18(-3.125,14) 19(3.125,12) 20(-3.125,12) 21(3.125,10) 22(-3.125,10) 23(3.125,8) 24(-3.125,8) 25(3.125,6) 26(-3.125,6) 27(3.125,4) 28(-3.125,4) 29(3.125,2) 30(-3.125,2) 31(3.125,0) 32(-3.125,0) 33(3.125,-2) 34(-3.125,-2) 35(3.125,-4) 36(-3.125,-4) 37(3.125,-6) 38(-3.125,-6) 39(3.125,-8) 40(-3.125,-8) 41(3.125,-10) 42(-3.125,-10) 43(3.125,-12) 44(-3.125,-12) 45(3.125,-14) 46(-3.125,-14) 47(3.125,-16) 48(-3.125,-16) 49(3.125,-18) 50(-3.125,-18) 51(3.125,-20) 52(-3.125,-20) 53(3.125,-22) 54(-3.125,-22) 55(3.125,-24) 56(-3.125,-24) 57(3.125,-26) 58(-3.125,-26) 59(3.125,-28) 60(-3.125,-28) 61(3.125,-30) 62(-3.125,-30)
F.SilkS:
  lines w0.254: -2.06,-30.76 -2.06,-31.06 2.06,-31.06 2.06,-30.76 ; -2.06,-29.24 -2.06,-28.76 ; -2.06,-27.24 -2.06,-26.76 ; -2.06,-25.24 -2.06,-24.76 ; -2.06,-23.24 -2.06,-22.76 ; -2.06,-21.24 -2.06,-20.76 ; -2.06,-19.24 -2.06,-18.76 ; -2.06,-17.24 -2.06,-16.76 ; -2.06,-15.24 -2.06,-14.76 ; -2.06,-13.24 -2.06,-12.76 ; -2.06,-11.24 -2.06,-10.76 ; -2.06,-9.24 -2.06,-8.76 ; -2.06,-7.24 -2.06,-6.76 ; -2.06,-5.24 -2.06,-4.76 ; -2.06,-3.24 -2.06,-2.76 ; -2.06,-1.24 -2.06,-0.76 ; -2.06,0.76 -2.06,1.24 ; -2.06,2.76 -2.06,3.24 ; -2.06,4.76 -2.06,5.24 ; -2.06,6.76 -2.06,7.24 ; -2.06,8.76 -2.06,9.24 ; -2.06,10.76 -2.06,11.24 ; -2.06,12.76 -2.06,13.24 ; -2.06,14.76 -2.06,15.24 ; -2.06,16.76 -2.06,17.24 ; -2.06,18.76 -2.06,19.24 ; -2.06,20.76 -2.06,21.24 ; -2.06,22.76 -2.06,23.24 ; -2.06,24.76 -2.06,25.24 ; -2.06,26.76 -2.06,27.24 ; -2.06,28.76 -2.06,29.24 ; -2.06,30.76 -2.06,31.06 2.06,31.06 2.06,30.76 4.44,30.76 ; 2.06,-29.24 2.06,-28.76 ; 2.06,-27.24 2.06,-26.76 ; 2.06,-25.24 2.06,-24.76 ; 2.06,-23.24 2.06,-22.76 ; 2.06,-21.24 2.06,-20.76 ; 2.06,-19.24 2.06,-18.76 ; 2.06,-17.24 2.06,-16.76 ; 2.06,-15.24 2.06,-14.76 ; 2.06,-13.24 2.06,-12.76 ; 2.06,-11.24 2.06,-10.76 ; 2.06,-9.24 2.06,-8.76 ; 2.06,-7.24 2.06,-6.76 ; 2.06,-5.24 2.06,-4.76 ; 2.06,-3.24 2.06,-2.76 ; 2.06,-1.24 2.06,-0.76 ; 2.06,0.76 2.06,1.24 ; 2.06,2.76 2.06,3.24 ; 2.06,4.76 2.06,5.24 ; 2.06,6.76 2.06,7.24 ; 2.06,8.76 2.06,9.24 ; 2.06,10.76 2.06,11.24 ; 2.06,12.76 2.06,13.24 ; 2.06,14.76 2.06,15.24 ; 2.06,16.76 2.06,17.24 ; 2.06,18.76 2.06,19.24 ; 2.06,20.76 2.06,21.24 ; 2.06,22.76 2.06,23.24 ; 2.06,24.76 2.06,25.24 ; 2.06,26.76 2.06,27.24 ; 2.06,28.76 2.06,29.24
Top Assembly:
  drawing of 191 lines, arcs and shapes, not listed
  text "'.Designator'" at 0.84,-4.047 h1
Top Courtyard:
  lines w0.254: -5,-31.5 5,-31.5 5,31.5 -5,31.5 -5,-31.5
Top Designator:
  text ".Designator" at -7.618,-0.508 h1.52

## PinSocket_2x32_P2.00mm_Horizontal [mm]
pads (64):
  rect 1.35x1.35 hole 0.8: 1(0,0)
  round 1.35 hole 0.8: 2(-2,0) 3(0,-2) 4(-2,-2) 5(0,-4) 6(-2,-4) 7(0,-6) 8(-2,-6) 9(0,-8) 10(-2,-8) 11(0,-10) 12(-2,-10) 13(0,-12) 14(-2,-12) 15(0,-14) 16(-2,-14) 17(0,-16) 18(-2,-16) 19(0,-18) 20(-2,-18) 21(0,-20) 22(-2,-20) 23(0,-22) 24(-2,-22) 25(0,-24) 26(-2,-24) 27(0,-26) 28(-2,-26) 29(0,-28) 30(-2,-28) 31(0,-30) 32(-2,-30) 33(0,-32) 34(-2,-32) 35(0,-34) 36(-2,-34) 37(0,-36) 38(-2,-36) 39(0,-38) 40(-2,-38) 41(0,-40) 42(-2,-40) 43(0,-42) 44(-2,-42) 45(0,-44) 46(-2,-44) 47(0,-46) 48(-2,-46) 49(0,-48) 50(-2,-48) 51(0,-50) 52(-2,-50) 53(0,-52) 54(-2,-52) 55(0,-54) 56(-2,-54) 57(0,-56) 58(-2,-56) 59(0,-58) 60(-2,-58) 61(0,-60) 62(-2,-60) 63(0,-62) 64(-2,-62)
F.SilkS:
  drawing of 182 lines, arcs and shapes, not listed
Top Assembly:
  lines w0.254: -3.27,-62.3 0,-62.3 0,-61.7 -3.27,-61.7 ; -3.27,-60.3 0,-60.3 0,-59.7 -3.27,-59.7 ; -3.27,-58.3 0,-58.3 0,-57.7 -3.27,-57.7 ; -3.27,-56.3 0,-56.3 0,-55.7 -3.27,-55.7 ; -3.27,-54.3 0,-54.3 0,-53.7 -3.27,-53.7 ; -3.27,-52.3 0,-52.3 0,-51.7 -3.27,-51.7 ; -3.27,-50.3 0,-50.3 0,-49.7 -3.27,-49.7 ; -3.27,-48.3 0,-48.3 0,-47.7 -3.27,-47.7 ; -3.27,-46.3 0,-46.3 0,-45.7 -3.27,-45.7 ; -3.27,-44.3 0,-44.3 0,-43.7 -3.27,-43.7 ; -3.27,-42.3 0,-42.3 0,-41.7 -3.27,-41.7 ; -3.27,-40.3 0,-40.3 0,-39.7 -3.27,-39.7 ; -3.27,-38.3 0,-38.3 0,-37.7 -3.27,-37.7 ; -3.27,-36.3 0,-36.3 0,-35.7 -3.27,-35.7 ; -3.27,-34.3 0,-34.3 0,-33.7 -3.27,-33.7 ; -3.27,-32.3 0,-32.3 0,-31.7 -3.27,-31.7 ; -3.27,-30.3 0,-30.3 0,-29.7 -3.27,-29.7 ; -3.27,-28.3 0,-28.3 0,-27.7 -3.27,-27.7 ; -3.27,-26.3 0,-26.3 0,-25.7 -3.27,-25.7 ; -3.27,-24.3 0,-24.3 0,-23.7 -3.27,-23.7 ; -3.27,-22.3 0,-22.3 0,-21.7 -3.27,-21.7 ; -3.27,-20.3 0,-20.3 0,-19.7 -3.27,-19.7 ; -3.27,-18.3 0,-18.3 0,-17.7 -3.27,-17.7 ; -3.27,-16.3 0,-16.3 0,-15.7 -3.27,-15.7 ; -3.27,-14.3 0,-14.3 0,-13.7 -3.27,-13.7 ; -3.27,-12.3 0,-12.3 0,-11.7 -3.27,-11.7 ; -3.27,-10.3 0,-10.3 0,-9.7 -3.27,-9.7 ; -3.27,-8.3 0,-8.3 0,-7.7 -3.27,-7.7 ; -3.27,-6.3 0,-6.3 0,-5.7 -3.27,-5.7 ; -3.27,-4.3 0,-4.3 0,-3.7 -3.27,-3.7 ; -3.27,-2.3 0,-2.3 0,-1.7 -3.27,-1.7 ; -3.27,-0.3 0,-0.3 0,0.3 -3.27,0.3 ; -3.27,0.3 -3.27,-63 -9.62,-63 -9.62,1 -3.97,1 -3.27,0.3
  text "'.Designator'" at -5.605,-35.047 h1
Top Courtyard:
  lines w0.254: -10.15,-63.5 1.5,-63.5 1.5,1.5 -10.15,1.5 -10.15,-63.5
Top Designator:
  text ".Designator" at -11.943,-31.508 h1.52